# Altium integrated library altech.IntLib: 15 symbols
Pins are listed as number, name and electrical type; pins without a type are passive.

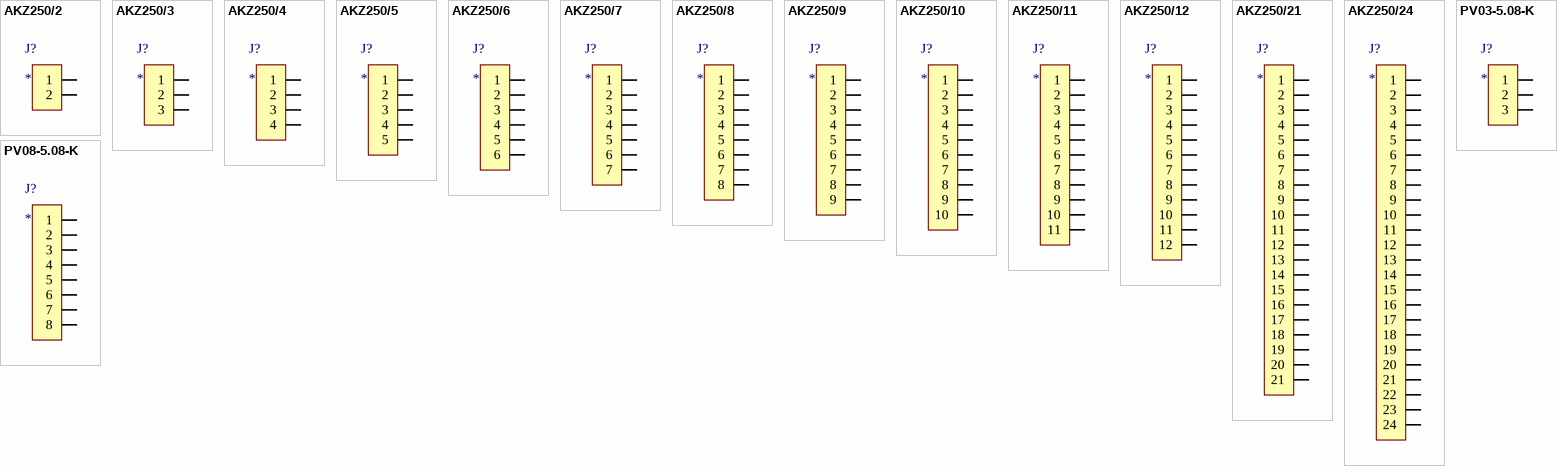
[diagram p0: symbols AKZ250/2 to PV08-5.08-K]

## AKZ250/2
designator J?
Screw Terminal, 2 Pin
footprint AKZ250/2
pins: 1, 2

## AKZ250/3
designator J?
Screw Terminal, 3 Pin
footprint AKZ250/3
pins: 1, 2, 3

## AKZ250/4
designator J?
Screw Terminal, 4 Pin
footprint AKZ250/4
pins: 1, 2, 3, 4

## AKZ250/5
designator J?
Screw Terminal, 5 Pin
footprint AKZ250/5
pins: 1, 2, 3, 4, 5

## AKZ250/6
designator J?
Screw Terminal, 6 Pin
footprint AKZ250/6
pins: 1, 2, 3, 4, 5, 6

## AKZ250/7
designator J?
Screw Terminal, 7 Pin
footprint AKZ250/7
pins: 1, 2, 3, 4, 5, 6, 7

## AKZ250/8
designator J?
Screw Terminal, 8 Pin
footprint AKZ250/8
pins: 1, 2, 3, 4, 5, 6, 7, 8

## AKZ250/9
designator J?
Screw Terminal, 9 Pin
footprint AKZ250/9
pins: 1, 2, 3, 4, 5, 6, 7, 8, 9

## AKZ250/10
designator J?
Screw Terminal, 10 Pin
footprint AKZ250/10
pins: 1, 2, 3, 4, 5, 6, 7, 8, 9, 10

## AKZ250/11
designator J?
Screw Terminal, 11 Pin
footprint AKZ250/11
pins: 1, 2, 3, 4, 5, 6, 7, 8, 9, 10, 11

## AKZ250/12
designator J?
Screw Terminal, 12 Pin
footprint AKZ250/12
pins: 1, 2, 3, 4, 5, 6, 7, 8, 9, 10, 11, 12

## AKZ250/21
designator J?
Screw Terminal, 21 Pin
footprint AKZ250/21 (Screw Terminal Block, 21 Position)
pins: 1, 2, 3, 4, 5, 6, 7, 8, 9, 10, 11, 12, 13, 14, 15, 16, 17, 18, 19, 20, 21

## AKZ250/24
designator J?
Screw Terminal, 24 Pin
footprint AKZ250/24 (Screw Terminal Block, 24 Position)
pins: 1, 2, 3, 4, 5, 6, 7, 8, 9, 10, 11, 12, 13, 14, 15, 16, 17, 18, 19, 20, 21, 22, 23, 24

## PV03-5.08-K
designator J?
Screw Terminal, 3 Pin
footprint PV03-5.08-K (Termainal Block, Pins, PCB, Heavy Duty, 6 Pins)
pins: 1, 2, 3

## PV08-5.08-K
designator J?
Screw Terminal, 8 Pin
footprint PV08-5.08-K (Termainal Block, Pins, PCB, Heavy Duty, 3 Pins)
pins: 1, 2, 3, 4, 5, 6, 7, 8